# EAGLE library part AS-ITM-00294 (library tinycircuits)
MODULE BLE
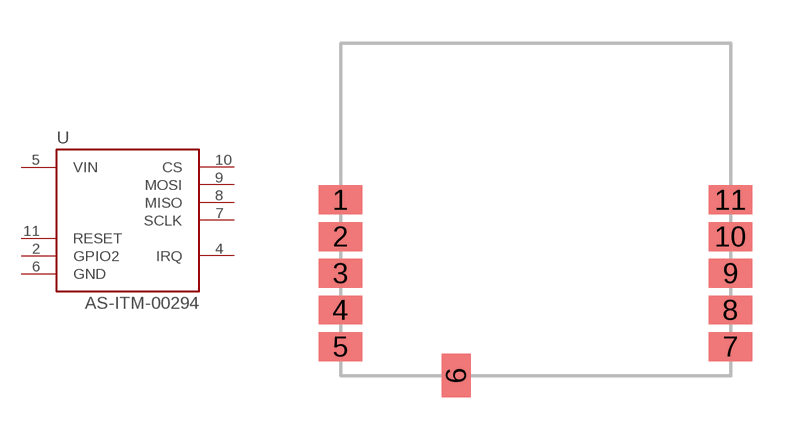
[diagram p116: symbol with the pads of SPBTLE-RF; footprint SPBTLE-RF]

Designator prefix U

## AS-ITM-00294 (PARTNO: AS-ITM-00294; VALUE: SPBTLE-RF)  [SPBTLE-RF]
2  GPIO2
4  IRQ
5  VIN
6  GND
7  SCLK
8  MISO
9  MOSI
10  CS
11  RESET

## Footprint SPBTLE-RF (pad centres in mm)
smd 1.5 x 1: 1 -6.75,0.33; 2 -6.75,-0.94; 3 -6.75,-2.21; 4 -6.75,-3.48; 5 -6.75,-4.75; 7 6.75,-4.75; 8 6.75,-3.48; 9 6.75,-2.21; 10 6.75,-0.94; 11 6.75,0.33
smd 1 x 1.5: 6 -2.75,-5.75